# Altium schematic symbol library RC522_RFID.SchLib: 1 symbol
Pins are listed as number, name and electrical type; pins without a type are passive.

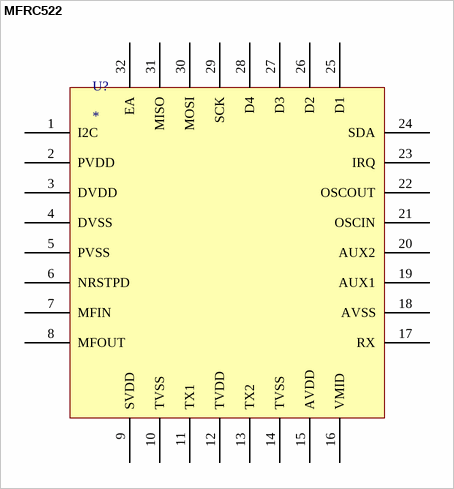
[diagram p0: symbol MFRC522]

## MFRC522
designator U?
footprint MFRC522 (MFRC522 RFID)
pins: 1 I2C, 2 PVDD, 3 DVDD, 4 DVSS, 5 PVSS, 6 NRSTPD, 7 MFIN, 8 MFOUT, 9 SVDD, 10 TVSS, 11 TX1, 12 TVDD, 13 TX2, 14 TVSS, 15 AVDD, 16 VMID, 17 RX, 18 AVSS, 19 AUX1, 20 AUX2, 21 OSCIN, 22 OSCOUT, 23 IRQ, 24 SDA, 25 D1, 26 D2, 27 D3, 28 D4, 29 SCK, 30 MOSI, 31 MISO, 32 EA